# Altium schematic symbol library LTST-C171KRKT.SchLib: 1 symbol
Pins are listed as number, name and electrical type; pins without a type are passive.

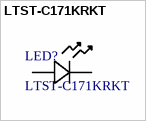
[diagram p0: symbol LTST-C171KRKT]

## LTST-C171KRKT
designator LED?
Description; Manufacturer_Name: LITE-ON; Type: LED Indication; Copyright: Copyright (C) 2025 Ultra Librarian. All rights reserved.; Manufacturer_Part_Number: LTST-C171KRKT
footprint LED_LTST-C171_LTO
pins: 1 CATHODE, 2 ANODE